# Altium footprint library SparkFun-IC-Logic.PCBLIB: 14 footprints
Each footprint in its own frame and in the unit in brackets; x right, y up, seen from the top. Pads: shape width x height; smd on the part's side, far side on the other; paste and mask are expansions set on the pad; w line width, h text height; cw(c..) or ccw(c..) is an arc to the next point about the centre after c.
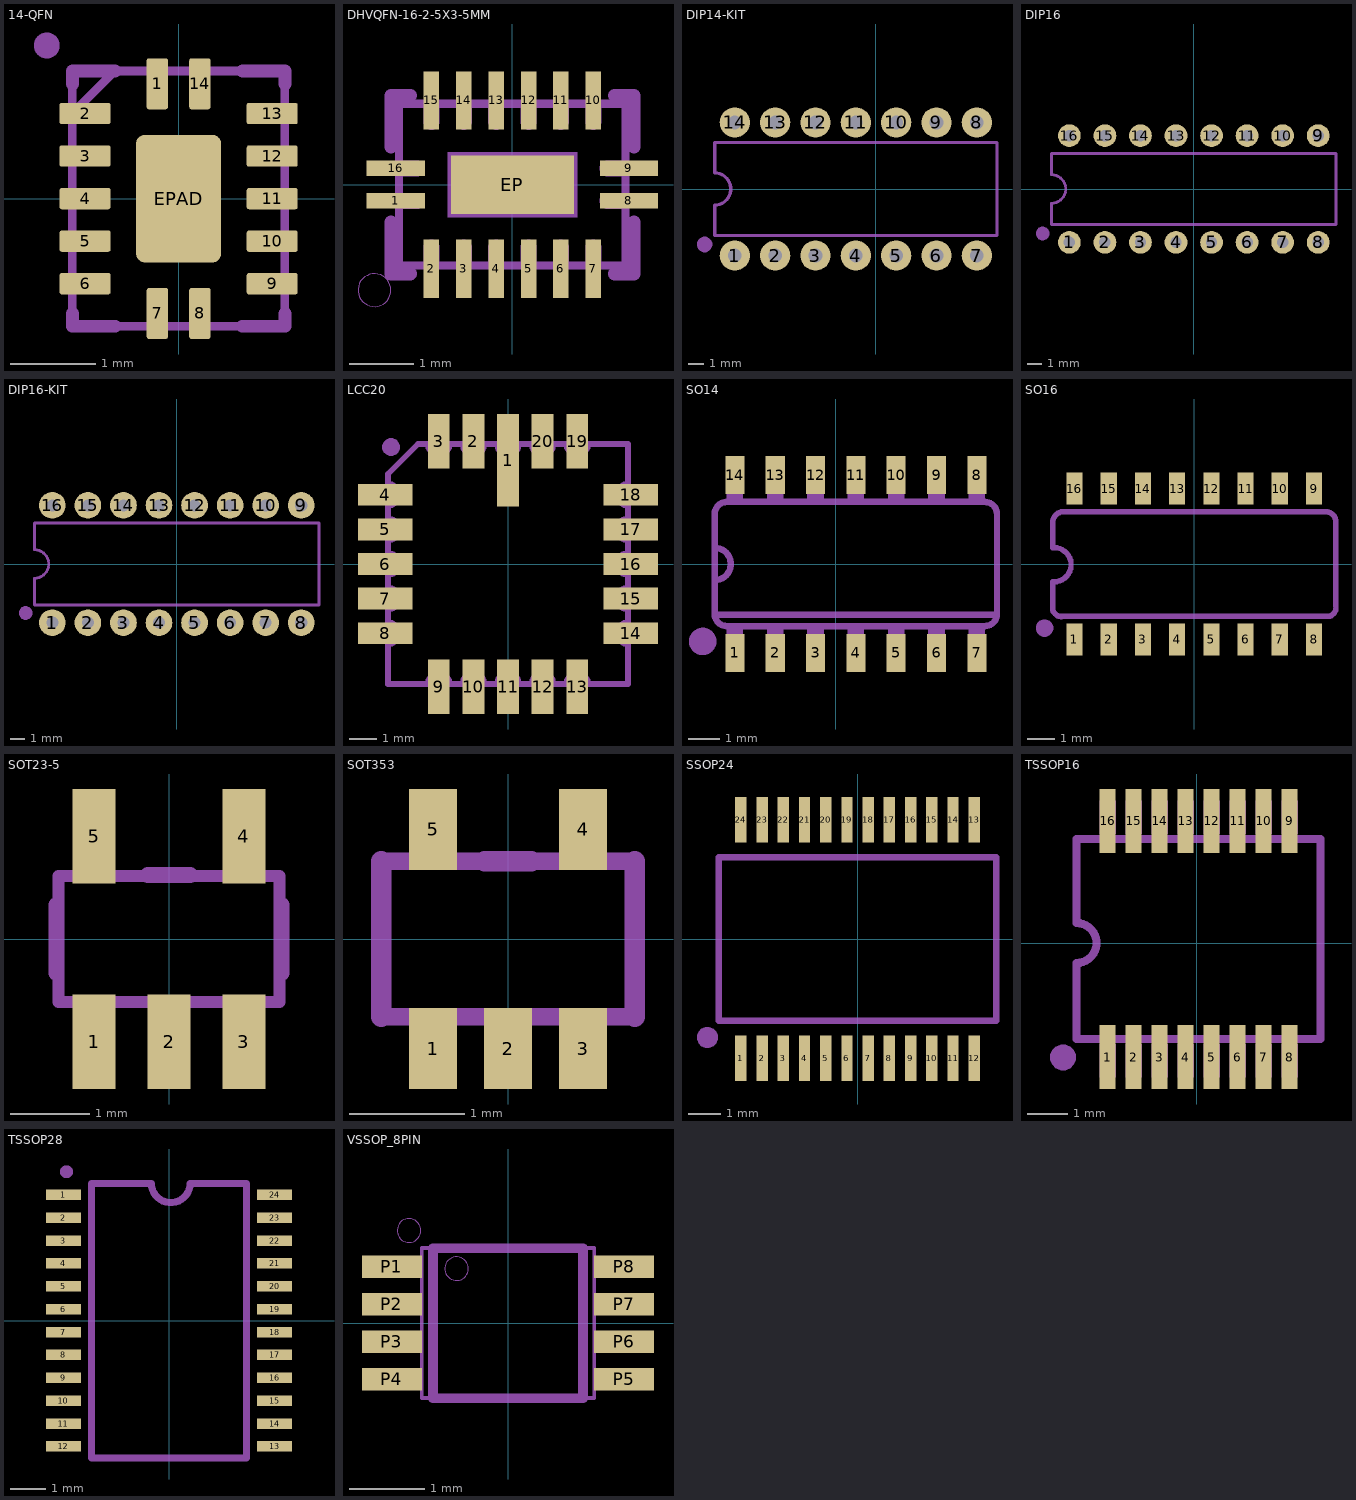
[diagram p0: the footprints below, top view; thin cyan lines are the x and y axes]

## 14-QFN [mm]
pads (15):
  rrect20% 0.25x0.6 smd paste+0: 1(-0.25,1.35) 7(-0.25,-1.35) 8(0.25,-1.35) 14(0.25,1.35)
  rrect20% 0.6x0.25 smd paste+0: 2(-1.1,1) 3(-1.1,0.5) 4(-1.1,0) 5(-1.1,-0.5) 6(-1.1,-1) 9(1.1,-1) 10(1.1,-0.5) 11(1.1,0) 12(1.1,0.5) 13(1.1,1)
  rrect20% 1x1.5 smd paste+0: EPAD(0,0)
Top Paste:
  drawing of 16 lines, arcs and shapes, not listed
tDocu:
  lines w0.1: -1.25,1 -0.75,1.5 ; -1.25,-1.5 1.25,-1.5 1.25,1.5 -1.25,1.5 -1.25,-1.5
tPlace:
  circle w0.152: c-1.55,1.8 r0.076
  lines w0.152: -1.25,-1.35 -1.25,-1.5 -0.75,-1.5 ; -1.25,1.35 -1.25,1.5 -0.75,1.5 ; 0.75,-1.5 1.25,-1.5 1.25,-1.35 ; 0.75,1.5 1.25,1.5 1.25,1.35

## DHVQFN-16-2-5X3-5MM [mil]
pads (17):
  rect 35.43x9.45 smd paste+0: 1(-70.87,-9.84) 8(70.87,-9.84) 9(70.87,9.84) 16(-70.87,9.84)
  rect 9.45x35.43 smd paste+0: 2(-49.21,-51.18) 3(-29.53,-51.18) 4(-9.84,-51.18) 5(9.84,-51.18) 6(29.53,-51.18) 7(49.21,-51.18) 10(49.21,51.18) 11(29.53,51.18) 12(9.84,51.18) 13(-9.84,51.18) 14(-29.53,51.18) 15(-49.21,51.18)
  rect 74.8x35.43 smd paste+0: EP(0,0)
Top Paste:
  region: 5.91,-7.87 5.91,7.87 21.65,7.87 21.65,-7.87
  region: -5.91,7.87 -5.91,-7.87 -21.65,-7.87 -21.65,7.87
  region: 54.13,6.1 54.13,13.58 87.6,13.58 87.6,6.1
  region: 54.13,-13.58 54.13,-6.1 87.6,-6.1 87.6,-13.58
  region: 45.47,-34.45 52.95,-34.45 52.95,-67.91 45.47,-67.91
  region: 25.79,-34.45 33.27,-34.45 33.27,-67.91 25.79,-67.91
  region: 6.1,-34.45 13.58,-34.45 13.58,-67.91 6.1,-67.91
  region: -13.58,-34.45 -6.1,-34.45 -6.1,-67.91 -13.58,-67.91
  region: -33.27,-34.45 -25.79,-34.45 -25.79,-67.91 -33.27,-67.91
  region: -52.95,-34.45 -45.47,-34.45 -45.47,-67.91 -52.95,-67.91
  region: -54.13,-6.1 -54.13,-13.58 -87.6,-13.58 -87.6,-6.1
  region: -54.13,13.58 -54.13,6.1 -87.6,6.1 -87.6,13.58
  region: -45.47,34.45 -52.95,34.45 -52.95,67.91 -45.47,67.91
  region: -25.79,34.45 -33.27,34.45 -33.27,67.91 -25.79,67.91
  region: -6.1,34.45 -13.58,34.45 -13.58,67.91 -6.1,67.91
  region: 13.58,34.45 6.1,34.45 6.1,67.91 13.58,67.91
  region: 33.27,34.45 25.79,34.45 25.79,67.91 33.27,67.91
  region: 52.95,34.45 45.47,34.45 45.47,67.91 52.95,67.91
tDocu:
  drawing of 21 lines, arcs and shapes, not listed
tPlace:
  circle w0: c-83.9,-64.21 r10
  lines w8: -73.9,-22.79 -73.9,-54.21 -62.1,-54.21 ; -73.9,22.79 -73.9,54.21 -62.1,54.21 ; 62.1,-54.21 73.9,-54.21 73.9,-22.79 ; 62.1,54.21 73.9,54.21 73.9,22.79

## DIP14-KIT [mil]
pads (14):
  round 75 hole 34: 1(-350,-165) 2(-250,-165) 3(-150,-165) 4(-50,-165) 5(50,-165) 6(150,-165) 7(250,-165) 8(250,165) 9(150,165) 10(50,165) 11(-50,165) 12(-150,165) 13(-250,165) 14(-350,165)
Top Solder:
  circle w0: c-350,165 r17
  circle w0: c-350,-165 r17
  circle w0: c-250,165 r17
  circle w0: c-250,-165 r17
  circle w0: c-150,165 r17
  circle w0: c-150,-165 r17
  circle w0: c-50,165 r17
  circle w0: c-50,-165 r17
  circle w0: c50,165 r17
  circle w0: c50,-165 r17
  circle w0: c150,165 r17
  circle w0: c150,-165 r17
  circle w0: c250,165 r17
  circle w0: c250,-165 r17
Bottom Solder:
  circle w0: c-350,165 r42
  circle w0: c-350,-165 r42
  circle w0: c-250,165 r42
  circle w0: c-250,-165 r42
  circle w0: c-150,165 r42
  circle w0: c-150,-165 r42
  circle w0: c-50,165 r42
  circle w0: c-50,-165 r42
  circle w0: c50,165 r42
  circle w0: c50,-165 r42
  circle w0: c150,165 r42
  circle w0: c150,-165 r42
  circle w0: c250,165 r42
  circle w0: c250,-165 r42
tPlace:
  region: -443.75,-137.5 -443.75,-133.77 -440.9,-126.88 -435.62,-121.6 -428.73,-118.75 -425,-118.75 -421.27,-118.75 -414.38,-121.6 -409.1,-126.88 -406.25,-133.77 -406.25,-137.5 -406.25,-141.23 -409.1,-148.12 -414.38,-153.4 -421.27,-156.25 -425,-156.25 -428.73,-156.25 -435.62,-153.4 -440.9,-148.12 -443.75,-141.23 -443.75,-137.5
  lines w8: -400,-115 -400,-40 ccw(c-400,0) -400,40 -400,115 300,115 300,-115 -400,-115

## DIP16 [mil]
pads (16):
  round 64 hole 32: 1(-350,-150) 2(-250,-150) 3(-150,-150) 4(-50,-150) 5(50,-150) 6(150,-150) 7(250,-150) 8(350,-150) 9(350,150) 10(250,150) 11(150,150) 12(50,150) 13(-50,150) 14(-150,150) 15(-250,150) 16(-350,150)
tPlace:
  region: -443.75,-125 -443.75,-121.27 -440.9,-114.38 -435.62,-109.1 -428.73,-106.25 -425,-106.25 -421.27,-106.25 -414.38,-109.1 -409.1,-114.38 -406.25,-121.27 -406.25,-125 -406.25,-128.73 -409.1,-135.62 -414.38,-140.9 -421.27,-143.75 -425,-143.75 -428.73,-143.75 -435.62,-140.9 -440.9,-135.62 -443.75,-128.73 -443.75,-125
  lines w8: -400,-100 400,-100 400,100 -400,100 -400,40 cw(c-400,0) -400,-40 -400,-100

## DIP16-KIT [mil]
pads (16):
  round 75 hole 34: 1(-350,-165) 2(-250,-165) 3(-150,-165) 4(-50,-165) 5(50,-165) 6(150,-165) 7(250,-165) 8(350,-165) 9(350,165) 10(250,165) 11(150,165) 12(50,165) 13(-50,165) 14(-150,165) 15(-250,165) 16(-350,165)
Top Solder:
  circle w0: c-150,165 r17
  circle w0: c-50,165 r17
  circle w0: c50,165 r17
  circle w0: c150,165 r17
  circle w0: c250,165 r17
  circle w0: c350,165 r17
  circle w0: c350,-165 r17
  circle w0: c-250,-165 r17
  circle w0: c-150,-165 r17
  circle w0: c-50,-165 r17
  circle w0: c50,-165 r17
  circle w0: c150,-165 r17
  circle w0: c250,-165 r17
  circle w0: c-350,-165 r17
  circle w0: c-150,165 r17
  circle w0: c-150,165 r17
  circle w0: c-250,165 r17
  circle w0: c-350,165 r17
Bottom Solder:
  circle w0: c-150,165 r42
  circle w0: c-50,165 r42
  circle w0: c50,165 r42
  circle w0: c150,165 r42
  circle w0: c250,165 r42
  circle w0: c350,165 r42
  circle w0: c350,-165 r42
  circle w0: c150,-165 r42
  circle w0: c250,-165 r42
  circle w0: c50,-165 r42
  circle w0: c-50,-165 r42
  circle w0: c-150,-165 r42
  circle w0: c-250,-165 r42
  circle w0: c-350,-165 r42
  circle w0: c-250,165 r42
  circle w0: c-350,165 r42
tPlace:
  region: -443.75,-137.5 -443.75,-133.77 -440.9,-126.88 -435.62,-121.6 -428.73,-118.75 -425,-118.75 -421.27,-118.75 -414.38,-121.6 -409.1,-126.88 -406.25,-133.77 -406.25,-137.5 -406.25,-141.23 -409.1,-148.12 -414.38,-153.4 -421.27,-156.25 -425,-156.25 -428.73,-156.25 -435.62,-153.4 -440.9,-148.12 -443.75,-141.23 -443.75,-137.5
  lines w8: -400,-115 -400,-40 ccw(c-400,0) -400,40 -400,115 400,115 400,-115 -400,-115

## LCC20 [mil]
pads (20):
  rect 31.5x133.86 smd: 1(0,149.61)
  rect 31.5x78.74 smd: 2(-50,177.17) 3(-100,177.17) 9(-100,-177.17) 10(-50,-177.17) 11(0,-177.17) 12(50,-177.17) 13(100,-177.17) 19(100,177.17) 20(50,177.17)
  rect 78.74x31.5 smd: 4(-177.17,100) 5(-177.17,50) 6(-177.17,0) 7(-177.17,-50) 8(-177.17,-100) 14(177.17,-100) 15(177.17,-50) 16(177.17,0) 17(177.17,50) 18(177.17,100)
tDocu:
  lines w8: -173.23,-173.62 -173.23,-173.23 ; -173.23,-115.75 -173.23,-173.23 ; -173.23,-84.25 -173.23,-65.75 ; -173.23,-34.25 -173.23,-15.75 ; -173.23,15.75 -173.23,34.25 ; -173.23,65.75 -173.23,84.25 ; -173.23,115.75 -173.23,129.92 -129.92,173.23 -115.75,173.23 ; -173.17,-115.75 ccw(c-173.17,-100) -173.17,-84.25 ; -173.17,-65.75 ccw(c-173.17,-50) -173.17,-34.25 ; -173.17,-15.75 ccw(c-173.17,0) -173.17,15.75 ; -173.17,34.25 ccw(c-173.17,50) -173.17,65.75 ; -173.17,84.25 ccw(c-173.17,100) -173.17,115.75 ; -115.75,-173.23 -173.23,-173.23 ; -115.75,-173.17 cw(c-100,-173.17) -84.25,-173.17 ; -115.75,173.17 ccw(c-100,173.17) -84.25,173.17 ; -84.25,-173.23 -65.75,-173.23 ; -84.25,173.23 -65.75,173.23 ; -65.75,-173.17 cw(c-50,-173.17) -34.25,-173.17 ; -65.75,173.17 ccw(c-50,173.17) -34.25,173.17 ; -34.25,-173.23 -15.75,-173.23 ; -34.25,173.23 -15.75,173.23 ; -15.75,-173.17 cw(c0,-173.17) 15.75,-173.17 ; -15.75,173.17 ccw(c0,173.17) 15.75,173.17 ; 15.75,-173.23 34.25,-173.23 ; 15.75,173.23 34.25,173.23 ; 34.25,-173.17 cw(c50,-173.17) 65.75,-173.17 ; 34.25,173.17 ccw(c50,173.17) 65.75,173.17 ; 65.75,-173.23 84.25,-173.23 ; 65.75,173.23 84.25,173.23 ; 84.25,-173.17 cw(c100,-173.17) 115.75,-173.17 ; 84.25,173.17 ccw(c100,173.17) 115.75,173.17 ; 115.75,-173.23 173.23,-173.23 173.23,-115.75 ; 115.75,173.23 173.23,173.23 173.23,115.75 ; 173.17,-115.75 cw(c173.17,-100) 173.17,-84.25 ; 173.17,-65.75 cw(c173.17,-50) 173.17,-34.25 ; 173.17,-15.75 cw(c173.17,0) 173.17,15.75 ; 173.17,34.25 cw(c173.17,50) 173.17,65.75 ; 173.17,84.25 cw(c173.17,100) 173.17,115.75 ; 173.23,-84.25 173.23,-65.75 ; 173.23,-34.25 173.23,-15.75 ; 173.23,15.75 173.23,34.25 ; 173.23,65.75 173.23,84.25
tPlace:
  region: -168.75,156.25 -166.26,156.25 -161.67,158.15 -158.15,161.67 -156.25,166.26 -156.25,168.75 -156.25,171.24 -158.15,175.83 -161.67,179.35 -166.26,181.25 -168.75,181.25 -171.24,181.25 -175.83,179.35 -179.35,175.83 -181.25,171.24 -181.25,168.75 -181.25,166.26 -179.35,161.67 -175.83,158.15 -171.24,156.25 -168.75,156.25

## SO14 [mil]
pads (14):
  rect 23.62x47.24 smd: 1(-125,-110.24) 2(-75,-110.24) 3(-25,-110.24) 4(25,-110.24) 5(75,-110.24) 6(125,-110.24) 7(175,-110.24) 8(175,110.24) 9(125,110.24) 10(75,110.24) 11(25,110.24) 12(-25,110.24) 13(-75,110.24) 14(-125,110.24)
tDocu:
  region: -35,77 -35,122 -15,122 -15,77
  region: -135,-122 -135,-77 -115,-77 -115,-122
  region: -85,-121 -85,-76 -65,-76 -65,-121
  region: -35,-122 -35,-77 -15,-77 -15,-122
  region: -85,77 -85,122 -65,122 -65,77
  region: -135,77 -135,122 -115,122 -115,77
  region: 15,-122 15,-77 35,-77 35,-122
  region: 65,-122 65,-77 85,-77 85,-122
  region: 115,-122 115,-77 135,-77 135,-122
  region: 165,-122 165,-77 185,-77 185,-122
  region: 15,77 15,122 35,122 35,77
  region: 65,77 65,122 85,122 85,77
  region: 115,77 115,122 135,122 135,77
  region: 165,77 165,122 185,122 185,77
tPlace:
  circle w20: c-165,-96 r7
  lines w8: -150,-63 200,-63 ; -150,-20 -150,20 ; -150,-20 -150,-62 ccw(c-135,-62) -135,-77 185,-77 ccw(c185,-62) 200,-62 200,62 ccw(c185,62) 185,77 -135,77 ccw(c-135,62) -150,62 -150,20 ; -150,-20 ccw(c-150,0) -150,20

## SO16 [mil]
pads (16):
  rect 23.62x47.24 smd: 1(-175,-110.24) 2(-125,-110.24) 3(-75,-110.24) 4(-25,-110.24) 5(25,-110.24) 6(75,-110.24) 7(125,-110.24) 8(175,-110.24) 9(175,110.24) 10(125,110.24) 11(75,110.24) 12(25,110.24) 13(-25,110.24) 14(-75,110.24) 15(-125,110.24) 16(-175,110.24)
tDocu:
  region: -185,-130 -185,-89.5 -165,-89.5 -165,-130
  region: -135,-130 -135,-89.5 -115,-89.5 -115,-130
  region: -85,-130 -85,-89.5 -65,-89.5 -65,-130
  region: -35,-130 -35,-89.5 -15,-89.5 -15,-130
  region: 15,-130 15,-89.5 35,-89.5 35,-130
  region: 65,-130 65,-89.5 85,-89.5 85,-130
  region: 115,-130 115,-89.5 135,-89.5 135,-130
  region: 165,-130 165,-89.5 185,-89.5 185,-130
  region: -135,90 -135,130 -115,130 -115,90
  region: -85,90 -85,130 -65,130 -65,90
  region: -35,90 -35,130 -15,130 -15,90
  region: 15,90 15,130 35,130 35,90
  region: 65,90 65,130 85,130 85,90
  region: 115,90 115,130 135,130 135,90
  region: 165,90 165,130 185,130 185,90
  region: -185,90 -185,130 -165,130 -165,90
tPlace:
  region: -206.25,-93.75 -206.25,-91.26 -208.15,-86.67 -211.67,-83.15 -216.26,-81.25 -218.75,-81.25 -221.24,-81.25 -225.83,-83.15 -229.35,-86.67 -231.25,-91.26 -231.25,-93.75 -231.25,-96.24 -229.35,-100.83 -225.83,-104.35 -221.24,-106.25 -218.75,-106.25 -216.26,-106.25 -211.67,-104.35 -208.15,-100.83 -206.25,-96.24 -206.25,-93.75
  lines w8: -207,-26 -207,-65.56 ccw(c-193.97,-63.6) -192,-76.63 195.94,-76.63 ccw(c193.97,-63.6) 207,-61.63 207,61.63 ccw(c192,61.63) 192,76.63 -192,76.63 ccw(c-190.03,59.66) -207,57.69 ; -207,24 -207,57.19 ; -205,-26 ccw(c-205,-1) -205,24

## SOT23-5 [mil]
pads (5):
  rect 21.65x47.24 smd: 1(-37.4,-51.19) 2(0,-51.19) 3(37.4,-51.19) 4(37.4,51.19) 5(-37.4,51.19)
tDocu:
  region: -47.24,-59.06 -47.24,-33.46 -27.56,-33.46 -27.56,-59.06
  region: -9.84,-59.06 -9.84,-33.46 9.84,-33.46 9.84,-59.06
  region: 27.56,-59.06 27.56,-33.46 47.24,-33.46 47.24,-59.06
  region: 27.56,33.46 27.56,59.06 47.24,59.06 47.24,33.46
  region: -47.24,33.46 -47.24,59.06 -27.56,59.06 -27.56,33.46
  lines w6: -55.12,-31.5 55.12,-31.5 55.12,31.5 -55.12,31.5 -55.12,-31.5
tPlace:
  lines w8: -56,-16.91 -56,16.91 ; -10.57,31.91 10.57,31.91 ; 56,-16.91 56,16.91

## SOT353 [mm]
pads (5):
  rect 0.42x0.7 smd: 1(-0.65,-0.95) 2(0,-0.95) 3(0.65,-0.95) 4(0.65,0.95) 5(-0.65,0.95)
tDocu:
  region: 0.5,0.7 0.5,1.1 0.8,1.1 0.8,0.7
  region: -0.8,0.7 -0.8,1.1 -0.5,1.1 -0.5,0.7
  region: 0.8,-0.7 0.8,-1.1 0.5,-1.1 0.5,-0.7
  region: 0.15,-0.7 0.15,-1.1 -0.15,-1.1 -0.15,-0.7
  region: -0.5,-0.7 -0.5,-1.1 -0.8,-1.1 -0.8,-0.7
  lines w0.152: -1.1,-0.675 -1.1,0.675 1.1,0.675 1.1,-0.675 -1.1,-0.675
tPlace:
  lines w0.178: -1.1,-0.675 -1.1,0.675 ; -0.2,0.675 0.2,0.675 ; 1.1,-0.675 1.1,0.675

## SSOP24 [mil]
pads (24):
  rect 13.7x55 smd: 1(-140.75,-143.94) 2(-115.16,-143.94) 3(-89.57,-143.94) 4(-63.98,-143.94) 5(-38.39,-143.94) 6(-12.8,-143.94) 7(12.8,-143.94) 8(38.39,-143.94) 9(63.98,-143.94) 10(89.57,-143.94) 11(115.16,-143.94) 12(140.75,-143.94) 13(140.75,143.94) 14(115.16,143.94) 15(89.57,143.94) 16(63.98,143.94) 17(38.39,143.94) 18(12.8,143.94) 19(-12.8,143.94) 20(-38.39,143.94) 21(-63.98,143.94) 22(-89.57,143.94) 23(-115.16,143.94) 24(-140.75,143.94)
tPlace:
  region: -168.75,-118.75 -168.75,-116.26 -170.65,-111.67 -174.17,-108.15 -178.76,-106.25 -181.25,-106.25 -183.74,-106.25 -188.33,-108.15 -191.85,-111.67 -193.75,-116.26 -193.75,-118.75 -193.75,-121.24 -191.85,-125.83 -188.33,-129.35 -183.74,-131.25 -181.25,-131.25 -178.76,-131.25 -174.17,-129.35 -170.65,-125.83 -168.75,-121.24 -168.75,-118.75
  lines w8: -167.32,-98.43 167.32,-98.43 167.32,98.43 -167.32,98.43 -167.32,-98.43

## TSSOP16 [mil]
pads (16):
  rect 15.75x62.99 smd: 1(-87.6,-112.2) 2(-62.01,-112.2) 3(-36.42,-112.2) 4(-10.83,-112.2) 5(14.76,-112.2) 6(40.35,-112.2) 7(65.94,-112.2) 8(91.54,-112.2) 9(91.54,120.08) 10(65.94,120.08) 11(40.35,120.08) 12(14.76,120.08) 13(-10.83,120.08) 14(-36.42,120.08) 15(-62.01,120.08) 16(-87.6,120.08)
tDocu:
  region: -95.47,-131.89 -95.47,-99.6 -79.72,-99.6 -79.72,-131.89
  region: -69.88,-131.89 -69.88,-99.6 -54.13,-99.6 -54.13,-131.89
  region: -44.29,-131.89 -44.29,-99.6 -28.54,-99.6 -28.54,-131.89
  region: -18.7,-131.89 -18.7,-99.6 -2.95,-99.6 -2.95,-131.89
  region: 6.89,-131.89 6.89,-99.6 22.64,-99.6 22.64,-131.89
  region: 32.48,-131.89 32.48,-99.6 48.23,-99.6 48.23,-131.89
  region: 58.07,-131.89 58.07,-99.6 73.82,-99.6 73.82,-131.89
  region: 83.66,-131.89 83.66,-99.6 99.41,-99.6 99.41,-131.89
  region: 83.66,107.48 83.66,139.77 99.41,139.77 99.41,107.48
  region: 58.07,107.48 58.07,139.77 73.82,139.77 73.82,107.48
  region: 32.48,107.48 32.48,139.77 48.23,139.77 48.23,107.48
  region: 6.89,107.48 6.89,139.77 22.64,139.77 22.64,107.48
  region: -18.7,107.48 -18.7,139.77 -2.95,139.77 -2.95,107.48
  region: -44.29,107.48 -44.29,139.77 -28.54,139.77 -28.54,107.48
  region: -69.88,107.48 -69.88,139.77 -54.13,139.77 -54.13,107.48
  region: -95.47,107.48 -95.47,139.77 -79.72,139.77 -79.72,107.48
  region: -95.47,-131.89 -95.47,-99.6 -79.72,-99.6 -79.72,-131.89
  region: -69.88,-131.89 -69.88,-99.6 -54.13,-99.6 -54.13,-131.89
  region: -44.29,-131.89 -44.29,-99.6 -28.54,-99.6 -28.54,-131.89
  region: -18.7,-131.89 -18.7,-99.6 -2.95,-99.6 -2.95,-131.89
  region: 6.89,-131.89 6.89,-99.6 22.64,-99.6 22.64,-131.89
  region: 32.48,-131.89 32.48,-99.6 48.23,-99.6 48.23,-131.89
  region: 58.07,-131.89 58.07,-99.6 73.82,-99.6 73.82,-131.89
  region: 83.66,-131.89 83.66,-99.6 99.41,-99.6 99.41,-131.89
  region: 83.66,107.48 83.66,139.77 99.41,139.77 99.41,107.48
  region: 58.07,107.48 58.07,139.77 73.82,139.77 73.82,107.48
  region: 32.48,107.48 32.48,139.77 48.23,139.77 48.23,107.48
  region: 6.89,107.48 6.89,139.77 22.64,139.77 22.64,107.48
  region: -18.7,107.48 -18.7,139.77 -2.95,139.77 -2.95,107.48
  region: -44.29,107.48 -44.29,139.77 -28.54,139.77 -28.54,107.48
  region: -69.88,107.48 -69.88,139.77 -54.13,139.77 -54.13,107.48
  region: -95.47,107.48 -95.47,139.77 -79.72,139.77 -79.72,107.48
  lines w8: -118.11,-94.49 122.05,-94.49 122.05,102.36 -118.11,102.36
tPlace:
  region: -118.75,-112.5 -118.75,-110.01 -120.65,-105.42 -124.17,-101.9 -128.76,-100 -131.25,-100 -133.74,-100 -138.33,-101.9 -141.85,-105.42 -143.75,-110.01 -143.75,-112.5 -143.75,-114.99 -141.85,-119.58 -138.33,-123.1 -133.74,-125 -131.25,-125 -128.76,-125 -124.17,-123.1 -120.65,-119.58 -118.75,-114.99 -118.75,-112.5
  lines w8: -110.24,-94.49 -118.11,-94.49 -118.11,-19.69 ccw(c-118.11,0) -118.11,19.69 -118.11,102.36 -110.24,102.36 ; 114.17,-94.49 122.05,-94.49 122.05,102.36 114.17,102.36

## TSSOP28 [mm]
pads (24):
  rect 1x0.3 smd: 1(-3,3.57) 2(-3,2.925) 3(-3,2.275) 4(-3,1.625) 5(-3,0.975) 6(-3,0.325) 7(-3,-0.325) 8(-3,-0.975) 9(-3,-1.625) 10(-3,-2.275) 11(-3,-2.925) 12(-3,-3.575) 13(3,-3.575) 14(3,-2.925) 15(3,-2.275) 16(3,-1.625) 17(3,-0.975) 18(3,-0.325) 19(3,0.325) 20(3,0.975) 21(3,1.625) 22(3,2.275) 23(3,2.925) 24(3,3.575)
tDocu:
  region: -3.252,-0.445 -3.252,-0.195 -2.627,-0.195 -2.627,-0.445
  region: 2.627,-0.455 2.627,-0.205 3.252,-0.205 3.252,-0.455
  region: -3.262,0.195 -3.262,0.445 -2.638,0.445 -2.638,0.195
  region: 2.627,0.195 2.627,0.445 3.252,0.445 3.252,0.195
  region: -3.262,0.85 -3.262,1.1 -2.638,1.1 -2.638,0.85
  region: -3.262,1.5 -3.262,1.75 -2.638,1.75 -2.638,1.5
  region: -3.262,2.15 -3.262,2.4 -2.638,2.4 -2.638,2.15
  region: -3.262,2.8 -3.262,3.05 -2.638,3.05 -2.638,2.8
  region: -3.262,3.45 -3.262,3.7 -2.638,3.7 -2.638,3.45
  region: -3.237,-1.1 -3.237,-0.85 -2.612,-0.85 -2.612,-1.1
  region: -3.237,-1.75 -3.237,-1.5 -2.612,-1.5 -2.612,-1.75
  region: -3.237,-2.4 -3.237,-2.15 -2.612,-2.15 -2.612,-2.4
  region: -3.237,-3.05 -3.237,-2.8 -2.612,-2.8 -2.612,-3.05
  region: -3.237,-3.7 -3.237,-3.45 -2.612,-3.45 -2.612,-3.7
  region: 2.638,-1.1 2.638,-0.85 3.262,-0.85 3.262,-1.1
  region: 2.638,-1.75 2.638,-1.5 3.262,-1.5 3.262,-1.75
  region: 2.638,-2.4 2.638,-2.15 3.262,-2.15 3.262,-2.4
  region: 2.638,-3.05 2.638,-2.8 3.262,-2.8 3.262,-3.05
  region: 2.638,-3.7 2.638,-3.45 3.262,-3.45 3.262,-3.7
  region: 2.638,0.85 2.638,1.1 3.262,1.1 3.262,0.85
  region: 2.638,1.5 2.638,1.75 3.262,1.75 3.262,1.5
  region: 2.638,2.15 2.638,2.4 3.262,2.4 3.262,2.15
  region: 2.638,2.8 2.638,3.05 3.262,3.05 3.262,2.8
  region: 2.638,3.45 2.638,3.7 3.262,3.7 3.262,3.45
tPlace:
  circle w0.3: c-2.916,4.229 r0.033
  lines w0.203: -2.2,-3.9 2.2,-3.9 2.2,3.9 0.6,3.9 cw(c0.05,3.9) -0.5,3.9 -2.2,3.9 -2.2,-3.9

## VSSOP_8PIN [mil]
pads (8):
  rect 31.5x11.81 smd paste+0 mask+0: P1(-61.02,29.53) P2(-61.02,9.84) P3(-61.02,-9.84) P4(-61.02,-29.53) P5(61.02,-29.53) P6(61.02,-9.84) P7(61.02,9.84) P8(61.02,29.53)
Top Paste:
  region: -75.79,24.61 -75.79,34.45 -46.26,34.45 -46.26,24.61
  region: -75.79,4.92 -75.79,14.76 -46.26,14.76 -46.26,4.92
  region: -75.79,-14.76 -75.79,-4.92 -46.26,-4.92 -46.26,-14.76
  region: -75.79,-34.45 -75.79,-24.61 -46.26,-24.61 -46.26,-34.45
  region: 46.26,24.61 46.26,34.45 75.79,34.45 75.79,24.61
  region: 46.26,4.92 46.26,14.76 75.79,14.76 75.79,4.92
  region: 46.26,-14.76 46.26,-4.92 75.79,-4.92 75.79,-14.76
  region: 46.26,-34.45 46.26,-24.61 75.79,-24.61 75.79,-34.45
Top Solder:
  region: -78.74,21.65 -78.74,37.4 -43.31,37.4 -43.31,21.65
  region: -78.74,1.97 -78.74,17.72 -43.31,17.72 -43.31,1.97
  region: -78.74,-17.72 -78.74,-1.97 -43.31,-1.97 -43.31,-17.72
  region: -78.74,-37.4 -78.74,-21.65 -43.31,-21.65 -43.31,-37.4
  region: 43.31,21.65 43.31,37.4 78.74,37.4 78.74,21.65
  region: 43.31,1.97 43.31,17.72 78.74,17.72 78.74,1.97
  region: 43.31,-17.72 43.31,-1.97 78.74,-1.97 78.74,-17.72
  region: 43.31,-37.4 43.31,-21.65 78.74,-21.65 78.74,-37.4
tDocu:
  lines w1.97: -45.28,-39.37 45.28,-39.37 45.28,39.37 -45.28,39.37 -45.28,-39.37
tPlace:
  circle w0: c-51.97,48.58 r6.22
  circle w0: c-26.97,28.58 r6.22
  lines w5: -39.37,-39.37 -39.37,39.37 39.37,39.37 39.37,-39.37 -39.37,-39.37